# Altium schematic symbol library Power.SchLib: 3 symbols
Pins are listed as number, name and electrical type; pins without a type are passive.

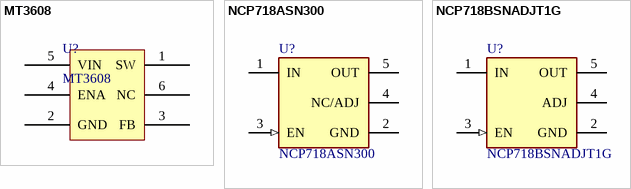
[diagram p0: symbols MT3608 to NCP718BSNADJT1G]

## MT3608
designator U?
2~24V input to 2~28V Output
footprint SOT-23-6L
pins: 1 SW, 2 GND, 3 FB, 4 ENA, 5 VIN, 6 NC

## NCP718ASN300
designator U?
3V LDO 300 MA LOW IQ WIDE INPUT; Manufacturer Part Number: NCP718BSNADJT1G; Manufacturer: On Semiconductor; Max Supply Voltage: 24V; Output Type: AdjustableProgrammable; Min Supply Voltage: 2.5V; Max Junction Temp: +125°C; Nominal Supply Current: 50-300uA; Dropout Voltage: 480mV; Accuracy Percentage: 2%; Standoff Height: 0.01mm; Output Voltage: 1.2-5V; Number Of Outputs: 1; Output Current: 300mA; Lead Free: Yes; Temperature: to +125°C; ComponentLink2URL: https://www.onsemi.com/pub/Collateral/NCP718-D.PDF; Height: 1mm; ComponentLink2Description: Datasheet; Octopart: https://octopart.com/ncp718bsnadjt1g-on+semiconductor-87658781; Device Class L1: Integrated Circuits (ICs); Device Class L2: Power Management ICs; Device Class L3: Voltage Regulators - Linear; Digikey Description: 300 MA LOW IQ WIDE INPUT; Temperature Range High: +125°C; Package: 419AE-01; Mouser Description: LDO Regulator, 300 mA, Wide Vin, Ultra-Low Iq Adjustable, Non-Active Discharge, TSOT23-5; Category: IC; Automotive: No; RoHS: TRUE; Manufacturer: ON Semiconductor
footprint SOT-23-5L
pins: 1 IN (power), 2 GND (power), 3 EN (in), 4 NC/ADJ, 5 OUT (power)

## NCP718BSNADJT1G
designator U?
ADJ LDO 300 MA LOW IQ WIDE INPUT; Manufacturer: On Semiconductor; Max Supply Voltage: 24V; Output Type: AdjustableProgrammable; Min Supply Voltage: 2.5V; Max Junction Temp: +125°C; Nominal Supply Current: 50-300uA; Dropout Voltage: 480mV; Accuracy Percentage: 2%; Standoff Height: 0.01mm; Output Voltage: 1.2-5V; Number Of Outputs: 1; Output Current: 300mA; Lead Free: Yes; Temperature: to +125°C; ComponentLink2URL: https://www.onsemi.com/pub/Collateral/NCP718-D.PDF; Height: 1mm; ComponentLink2Description: Datasheet; Octopart: https://octopart.com/ncp718bsnadjt1g-on+semiconductor-87658781; Manufacturer Part Number: NCP718BSNADJT1G; Device Class L1: Integrated Circuits (ICs); Device Class L2: Power Management ICs; Device Class L3: Voltage Regulators - Linear; Digikey Description: 300 MA LOW IQ WIDE INPUT; Temperature Range High: +125°C; Package: 419AE-01; Mouser Description: LDO Regulator, 300 mA, Wide Vin, Ultra-Low Iq Adjustable, Non-Active Discharge, TSOT23-5; Category: IC; Automotive: No; RoHS: TRUE; Manufacturer: ON Semiconductor
footprint SOT-23-5L
pins: 1 IN (power), 2 GND (power), 3 EN (in), 4 ADJ, 5 OUT (power)